# Altium schematic symbol library SCH - FUSE - PPTC 0,1A 15V.SCHLIB: 1 symbol
Pins are listed as number, name and electrical type; pins without a type are passive.

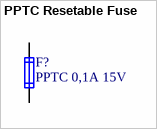
[diagram p0: symbol PPTC Resetable Fuse]

## PPTC Resetable Fuse
designator F?, comment PPTC 0,1A 15V
PTC Resettable Fuse 0.1A 15V SMD 0805; AN: 28044; Mixed: SMT; H-ART: MF-PSMF010X-2; Value: 0.1A; HelpURL: B:\AD\adlib\datasheet\MF-PSMF; Case: 2012 (0805); Voltage: 15V; Extra: MF-PSMF010X-2
footprint RESC2012X85N
pins: 1, 2